# Altium integrated library DCDC Converters.IntLib: 5 symbols
Pins are listed as number, name and electrical type; pins without a type are passive.

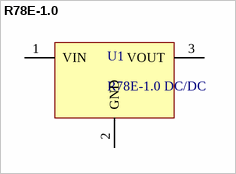
[diagram p0: symbol R78E-1.0]

## R78E-1.0
designator U1, comment R78E-1.0 DC/DC
footprint R78-1.0
pins: 1 VIN, 2 GND, 3 VOUT


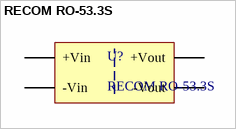
[diagram p1: symbol RECOM RO-53.3S]

## RECOM RO-53.3S
designator U?
DC/DC 1W 5VIN 3.3VOUT ISO; Supplier 1: Digi-Key; Supplier Part Number 1: 945-1524-5-ND
footprint RECOM RO Series 1W DCDC (RO-053.3S)
pins: 1 -Vin, 2 +Vin, 3 -Vout, 4 +Vout


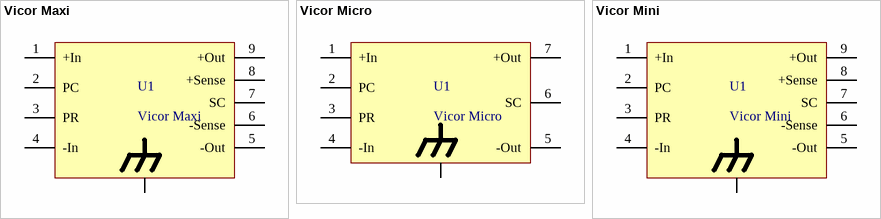
[diagram p2: symbols Vicor Maxi to Vicor Mini]

## Vicor Maxi
designator U1
footprint Vicor_Maxi
pins: 0 CHASSIS GROUND, 1 +In, 2 PC, 3 PR, 4 -In, 5 -Out, 6 -Sense, 7 SC, 8 +Sense, 9 +Out

## Vicor Micro
designator U1
footprint Vicor_Micro
pins: 0 CHASSIS GROUND, 1 +In, 2 PC, 3 PR, 4 -In, 5 -Out, 6 SC, 7 +Out

## Vicor Mini
designator U1
footprint Vicor_Mini
pins: 0 CHASSIS GROUND, 1 +In, 2 PC, 3 PR, 4 -In, 5 -Out, 6 -Sense, 7 SC, 8 +Sense, 9 +Out